# Altium integrated library Diodes - TVS.IntLib: 5379 symbols (part 16 of 122)
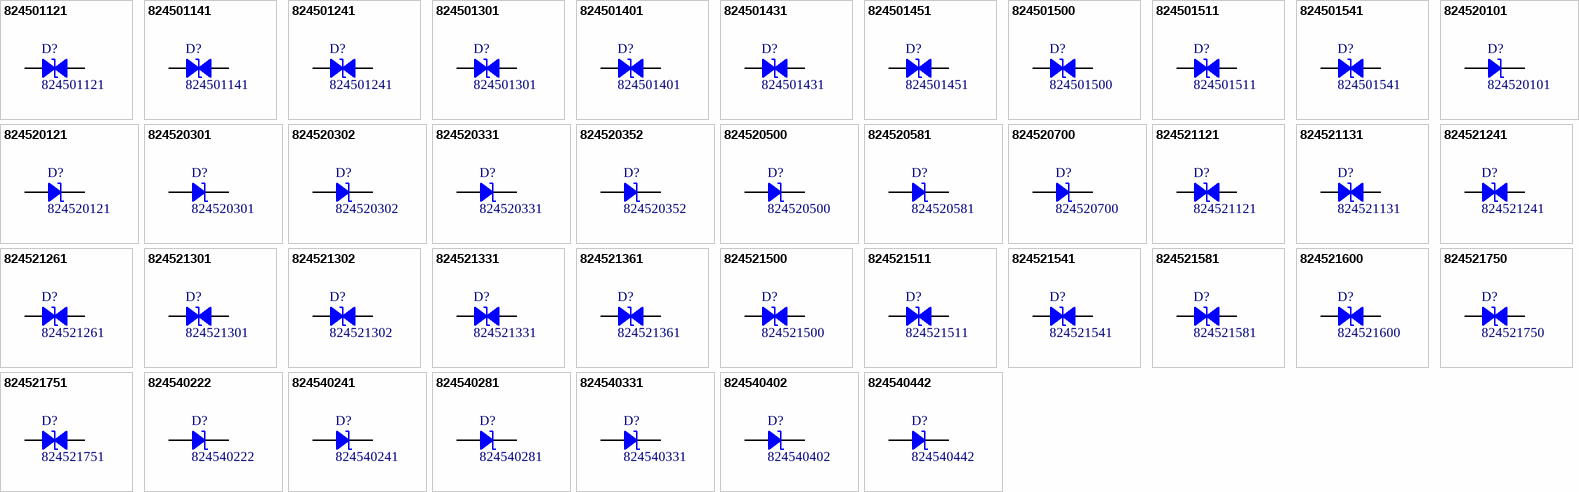
[diagram p149: symbols 824501121 to 824540442]

## 824520581
designator D?
TVS DIODE 58V 93.6V DO214AA; Manufacturer: Würth Elektronik; Current - Peak Pulse (10/1000µs): 6.5A; Power Line Protection: No; Power - Peak Pulse: 600W; Type: Zener; Unidirectional Channels: 1; Voltage - Breakdown (Min): 67.8V (Typ); Voltage - Reverse Standoff (Typ): 58V (Max); Part Number: 824520581; Applications: General Purpose; ComponentLink1Description: Datasheet; ComponentLink1URL: https://katalog.we-online.de/pbs/datasheet/824520581.pdf; ComponentLink2Description: DigiKey Link; ComponentLink2URL: http://digikey.com/product-detail/en/w-rth-elektronik/824520581/732-9790-1-ND/5870944; LastUpdated: 9/2/2020 1:19:49 AM; Lifecycle Status: Active; Minimum Order: 1; Mounting Type: Surface Mount; Operating Temperature: -65°C ~ 150°C (TJ); Package / Case: DO-214AA, SMB; Packaging: TapeAndReel; PartId: 11150; Part Status: Active; Price: 0.24; Series: WE-TVSP; Supplier 1: DigiKey; Supplier Part Number 1: 732-9790-1-ND; Supplier Device Package: DO-214AA; Voltage - Clamping (Max) @ Ipp: 93.6V
footprint DO214AA SMB
pins: 1, 2

## 824520700
designator D?
TVS DIODE 7V 12V DO214AA; Manufacturer: Würth Elektronik; Current - Peak Pulse (10/1000µs): 50A; Power Line Protection: No; Power - Peak Pulse: 600W; Type: Zener; Unidirectional Channels: 1; Voltage - Breakdown (Min): 8.19V (Typ); Voltage - Reverse Standoff (Typ): 7V (Max); Part Number: 824520700; Applications: General Purpose; ComponentLink1Description: Datasheet; ComponentLink1URL: https://katalog.we-online.de/pbs/datasheet/824520700.pdf; ComponentLink2Description: DigiKey Link; ComponentLink2URL: http://digikey.com/product-detail/en/w-rth-elektronik/824520700/732-9767-1-ND/5870921; LastUpdated: 9/2/2020 1:19:49 AM; Lifecycle Status: Active; Minimum Order: 1; Mounting Type: Surface Mount; Operating Temperature: -65°C ~ 150°C (TJ); Package / Case: DO-214AA, SMB; Packaging: TapeAndReel; PartId: 11158; Part Status: Active; Price: 0.24; Series: WE-TVSP; Supplier 1: DigiKey; Supplier Part Number 1: 732-9767-1-ND; Supplier Device Package: DO-214AA; Voltage - Clamping (Max) @ Ipp: 12V
footprint DO214AA SMB
pins: 1, 2

## 824521121
designator D?
TVS DIODE 12V 19.9V DO214AA; Manufacturer: Würth Elektronik; Bidirectional Channels: 1; Current - Peak Pulse (10/1000µs): 30.2A; Power Line Protection: No; Power - Peak Pulse: 600W; Type: Zener; Voltage - Breakdown (Min): 14V (Typ); Voltage - Reverse Standoff (Typ): 12V (Max); Part Number: 824521121; Applications: General Purpose; ComponentLink1Description: Datasheet; ComponentLink1URL: https://katalog.we-online.de/pbs/datasheet/824521121.pdf; ComponentLink2Description: DigiKey Link; ComponentLink2URL: http://digikey.com/product-detail/en/w-rth-elektronik/824521121/732-9739-1-ND/5870893; LastUpdated: 9/2/2020 1:28:20 AM; Lifecycle Status: Active; Minimum Order: 1; Mounting Type: Surface Mount; Operating Temperature: -65°C ~ 150°C (TJ); Package / Case: DO-214AA, SMB; Packaging: TapeAndReel; PartId: 9449; Part Status: Active; Price: 0.24; Series: WE-TVSP; Supplier 1: DigiKey; Supplier Part Number 1: 732-9739-1-ND; Supplier Device Package: DO-214AA; Voltage - Clamping (Max) @ Ipp: 19.9V
footprint DO214AA SMB
pins: 1, 2

## 824521131
designator D?
TVS DIODE 13V 21.5V DO214AA; Manufacturer: Würth Elektronik; Bidirectional Channels: 1; Current - Peak Pulse (10/1000µs): 28A; Power Line Protection: No; Power - Peak Pulse: 600W; Type: Zener; Voltage - Breakdown (Min): 15.15V (Typ); Voltage - Reverse Standoff (Typ): 13V (Max); Part Number: 824521131; Applications: General Purpose; ComponentLink1Description: Datasheet; ComponentLink1URL: https://katalog.we-online.de/pbs/datasheet/824521131.pdf; ComponentLink2Description: DigiKey Link; ComponentLink2URL: http://digikey.com/product-detail/en/w-rth-elektronik/824521131/732-9740-1-ND/5870894; LastUpdated: 9/2/2020 1:28:20 AM; Lifecycle Status: Active; Minimum Order: 1; Mounting Type: Surface Mount; Operating Temperature: -65°C ~ 150°C (TJ); Package / Case: DO-214AA, SMB; Packaging: TapeAndReel; PartId: 9447; Part Status: Active; Price: 0.24; Series: WE-TVSP; Supplier 1: DigiKey; Supplier Part Number 1: 732-9740-1-ND; Supplier Device Package: DO-214AA; Voltage - Clamping (Max) @ Ipp: 21.5V
footprint DO214AA SMB
pins: 1, 2

## 824521241
designator D?
TVS DIODE 24V 38.9V DO214AA; Manufacturer: Würth Elektronik; Bidirectional Channels: 1; Current - Peak Pulse (10/1000µs): 15.5A; Power Line Protection: No; Power - Peak Pulse: 600W; Type: Zener; Voltage - Breakdown (Min): 28.1V (Typ); Voltage - Reverse Standoff (Typ): 24V (Max); Part Number: 824521241; Applications: General Purpose; ComponentLink1Description: Datasheet; ComponentLink1URL: https://katalog.we-online.de/pbs/datasheet/824521241.pdf; ComponentLink2Description: DigiKey Link; ComponentLink2URL: http://digikey.com/product-detail/en/w-rth-elektronik/824521241/732-9746-1-ND/5870900; LastUpdated: 9/2/2020 1:28:20 AM; Lifecycle Status: Active; Minimum Order: 1; Mounting Type: Surface Mount; Operating Temperature: -65°C ~ 150°C (TJ); Package / Case: DO-214AA, SMB; Packaging: TapeAndReel; PartId: 9451; Part Status: Active; Price: 0.24; Series: WE-TVSP; Supplier 1: DigiKey; Supplier Part Number 1: 732-9746-1-ND; Supplier Device Package: DO-214AA; Voltage - Clamping (Max) @ Ipp: 38.9V
footprint DO214AA SMB
pins: 1, 2

## 824521261
designator D?
TVS DIODE 26V 42.1V DO214AA; Manufacturer: Würth Elektronik; Bidirectional Channels: 1; Current - Peak Pulse (10/1000µs): 14.3A; Power Line Protection: No; Power - Peak Pulse: 600W; Type: Zener; Voltage - Breakdown (Min): 30.4V (Typ); Voltage - Reverse Standoff (Typ): 26V (Max); Part Number: 824521261; Applications: General Purpose; ComponentLink1Description: Datasheet; ComponentLink1URL: https://katalog.we-online.de/pbs/datasheet/824521261.pdf; ComponentLink2Description: DigiKey Link; ComponentLink2URL: http://digikey.com/product-detail/en/w-rth-elektronik/824521261/732-9742-1-ND/5870896; LastUpdated: 9/2/2020 1:28:20 AM; Lifecycle Status: Active; Minimum Order: 1; Mounting Type: Surface Mount; Operating Temperature: -65°C ~ 150°C (TJ); Package / Case: DO-214AA, SMB; Packaging: TapeAndReel; PartId: 9450; Part Status: Active; Price: 0.24; Series: WE-TVSP; Supplier 1: DigiKey; Supplier Part Number 1: 732-9742-1-ND; Supplier Device Package: DO-214AA; Voltage - Clamping (Max) @ Ipp: 42.1V
footprint DO214AA SMB
pins: 1, 2

## 824521301
designator D?
TVS DIODE 30V 48.4V DO214AA; Manufacturer: Würth Elektronik; Bidirectional Channels: 1; Current - Peak Pulse (10/1000µs): 12.4A; Power Line Protection: No; Power - Peak Pulse: 600W; Type: Zener; Voltage - Breakdown (Min): 35.05V (Typ); Voltage - Reverse Standoff (Typ): 30V (Max); Part Number: 824521301; Applications: General Purpose; ComponentLink1Description: Datasheet; ComponentLink1URL: https://katalog.we-online.de/pbs/datasheet/824521301.pdf; ComponentLink2Description: DigiKey Link; ComponentLink2URL: http://digikey.com/product-detail/en/w-rth-elektronik/824521301/732-9747-1-ND/5870901; LastUpdated: 9/2/2020 1:28:16 AM; Lifecycle Status: Active; Minimum Order: 1; Mounting Type: Surface Mount; Operating Temperature: -65°C ~ 150°C (TJ); Package / Case: DO-214AA, SMB; Packaging: TapeAndReel; PartId: 8966; Part Status: Active; Price: 0.24; Series: WE-TVSP; Supplier 1: DigiKey; Supplier Part Number 1: 732-9747-1-ND; Supplier Device Package: DO-214AA; Voltage - Clamping (Max) @ Ipp: 48.4V
footprint DO214AA SMB
pins: 1, 2

## 824521302
designator D?
WE-TVSP POWER TVS DIODE; Manufacturer: Würth Elektronik; Bidirectional Channels: 1; Current - Peak Pulse (10/1000µs): 1.3A; Power Line Protection: No; Type: Zener; Voltage - Breakdown (Min): 353V; Voltage - Clamping (Max) @ Ipp: 486V; Voltage - Reverse Standoff (Typ): 300V (Max); Part Number: 824521302; Applications: General Purpose; ComponentLink2Description: DigiKey Link; ComponentLink2URL: http://digikey.com/product-detail/en/würth-elektronik/824521302/732-824521302CT-ND/12728091; LastUpdated: 8/30/2020 9:07:43 PM; Lifecycle Status: Active; Minimum Order: 1; Mounting Type: Surface Mount; Operating Temperature: -65°C ~ 150°C (TA); Package / Case: DO-214AA, SMB; Packaging: TapeAndReel; PartId: 11485; Price: 0.46; Series: WE-TVSP; Supplier 1: DigiKey; Supplier Part Number 1: 732-824521302CT-ND; Supplier Device Package: DO-214AA
footprint DO214AA SMB
pins: 1, 2

## 824521331
designator D?
TVS DIODE 33V 53.3V DO214AA; Manufacturer: Würth Elektronik; Bidirectional Channels: 1; Current - Peak Pulse (10/1000µs): 11.3A; Power Line Protection: No; Power - Peak Pulse: 600W; Type: Zener; Voltage - Breakdown (Min): 38.65V (Typ); Voltage - Reverse Standoff (Typ): 33V (Max); Part Number: 824521331; Applications: General Purpose; ComponentLink1Description: Datasheet; ComponentLink1URL: https://katalog.we-online.de/pbs/datasheet/824521331.pdf; ComponentLink2Description: DigiKey Link; ComponentLink2URL: http://digikey.com/product-detail/en/w-rth-elektronik/824521331/732-9748-1-ND/5870902; LastUpdated: 9/2/2020 1:28:20 AM; Lifecycle Status: Active; Minimum Order: 0; Mounting Type: Surface Mount; Operating Temperature: -65°C ~ 150°C (TJ); Package / Case: DO-214AA, SMB; Packaging: TapeAndReel; PartId: 9457; Part Status: Active; Price: 0.24; Series: WE-TVSP; Supplier 1: DigiKey; Supplier Part Number 1: 732-9748-1-ND; Supplier Device Package: DO-214AA; Voltage - Clamping (Max) @ Ipp: 53.3V
footprint DO214AA SMB
pins: 1, 2

## 824521361
designator D?
TVS DIODE 36V 58.1V DO214AA; Manufacturer: Würth Elektronik; Bidirectional Channels: 1; Current - Peak Pulse (10/1000µs): 10.4A; Power Line Protection: No; Power - Peak Pulse: 600W; Type: Zener; Voltage - Breakdown (Min): 42.1V (Typ); Voltage - Reverse Standoff (Typ): 36V (Max); Part Number: 824521361; Applications: General Purpose; ComponentLink1Description: Datasheet; ComponentLink1URL: https://katalog.we-online.de/pbs/datasheet/824521361.pdf; ComponentLink2Description: DigiKey Link; ComponentLink2URL: http://digikey.com/product-detail/en/w-rth-elektronik/824521361/732-9749-1-ND/5870903; LastUpdated: 9/2/2020 1:28:20 AM; Lifecycle Status: Active; Minimum Order: 0; Mounting Type: Surface Mount; Operating Temperature: -65°C ~ 150°C (TJ); Package / Case: DO-214AA, SMB; Packaging: TapeAndReel; PartId: 9454; Part Status: Active; Price: 0.24; Series: WE-TVSP; Supplier 1: DigiKey; Supplier Part Number 1: 732-9749-1-ND; Supplier Device Package: DO-214AA; Voltage - Clamping (Max) @ Ipp: 58.1V
footprint DO214AA SMB
pins: 1, 2

## 824521500
designator D?
TVS DIODE 5V 9.2V DO214AA; Manufacturer: Würth Elektronik; Bidirectional Channels: 1; Current - Peak Pulse (10/1000µs): 65.3A; Power Line Protection: No; Power - Peak Pulse: 600W; Type: Zener; Voltage - Breakdown (Min): 6.7V (Typ); Voltage - Reverse Standoff (Typ): 5V (Max); Part Number: 824521500; Applications: General Purpose; ComponentLink1Description: Datasheet; ComponentLink1URL: https://katalog.we-online.de/pbs/datasheet/824521500.pdf; ComponentLink2Description: DigiKey Link; ComponentLink2URL: http://digikey.com/product-detail/en/w-rth-elektronik/824521500/732-9729-1-ND/5870883; LastUpdated: 9/2/2020 1:28:20 AM; Lifecycle Status: Active; Minimum Order: 1; Mounting Type: Surface Mount; Operating Temperature: -65°C ~ 150°C (TJ); Package / Case: DO-214AA, SMB; Packaging: TapeAndReel; PartId: 9462; Part Status: Active; Price: 0.24; Series: WE-TVSP; Supplier 1: DigiKey; Supplier Part Number 1: 732-9729-1-ND; Supplier Device Package: DO-214AA; Voltage - Clamping (Max) @ Ipp: 9.2V
footprint DO214AA SMB
pins: 1, 2

## 824521511
designator D?
TVS DIODE 51V 82.4V DO214AA; Manufacturer: Würth Elektronik; Bidirectional Channels: 1; Current - Peak Pulse (10/1000µs): 7.3A; Power Line Protection: No; Power - Peak Pulse: 600W; Type: Zener; Voltage - Breakdown (Min): 59.7V (Typ); Voltage - Reverse Standoff (Typ): 51V (Max); Part Number: 824521511; Applications: General Purpose; ComponentLink1Description: Datasheet; ComponentLink1URL: https://katalog.we-online.de/pbs/datasheet/824521511.pdf; ComponentLink2Description: DigiKey Link; ComponentLink2URL: http://digikey.com/product-detail/en/w-rth-elektronik/824521511/732-9754-1-ND/5870908; LastUpdated: 9/2/2020 1:28:20 AM; Lifecycle Status: Active; Minimum Order: 1; Mounting Type: Surface Mount; Operating Temperature: -65°C ~ 150°C (TJ); Package / Case: DO-214AA, SMB; Packaging: TapeAndReel; PartId: 9448; Part Status: Active; Price: 0.24; Series: WE-TVSP; Supplier 1: DigiKey; Supplier Part Number 1: 732-9754-1-ND; Supplier Device Package: DO-214AA; Voltage - Clamping (Max) @ Ipp: 82.4V
footprint DO214AA SMB
pins: 1, 2

## 824521541
designator D?
TVS DIODE 54V 87.1V DO214AA; Manufacturer: Würth Elektronik; Bidirectional Channels: 1; Current - Peak Pulse (10/1000µs): 6.9A; Power Line Protection: No; Power - Peak Pulse: 600W; Type: Zener; Voltage - Breakdown (Min): 63.15V (Typ); Voltage - Reverse Standoff (Typ): 54V (Max); Part Number: 824521541; Applications: General Purpose; ComponentLink1Description: Datasheet; ComponentLink1URL: https://katalog.we-online.de/pbs/datasheet/824521541.pdf; ComponentLink2Description: DigiKey Link; ComponentLink2URL: http://digikey.com/product-detail/en/w-rth-elektronik/824521541/732-9755-1-ND/5870909; LastUpdated: 9/2/2020 1:28:15 AM; Lifecycle Status: Active; Minimum Order: 0; Mounting Type: Surface Mount; Operating Temperature: -65°C ~ 150°C (TJ); Package / Case: DO-214AA, SMB; Packaging: TapeAndReel; PartId: 8816; Part Status: Active; Price: 0.24; Series: WE-TVSP; Supplier 1: DigiKey; Supplier Part Number 1: 732-9755-1-ND; Supplier Device Package: DO-214AA; Voltage - Clamping (Max) @ Ipp: 87.1V
footprint DO214AA SMB
pins: 1, 2

## 824521581
designator D?
TVS DIODE 58V 93.6V DO214AA; Manufacturer: Würth Elektronik; Bidirectional Channels: 1; Current - Peak Pulse (10/1000µs): 6.5A; Power Line Protection: No; Power - Peak Pulse: 600W; Type: Zener; Voltage - Breakdown (Min): 67.8V (Typ); Voltage - Reverse Standoff (Typ): 58V (Max); Part Number: 824521581; Applications: General Purpose; ComponentLink1Description: Datasheet; ComponentLink1URL: https://katalog.we-online.de/pbs/datasheet/824521581.pdf; ComponentLink2Description: DigiKey Link; ComponentLink2URL: http://digikey.com/product-detail/en/w-rth-elektronik/824521581/732-9753-1-ND/5870907; LastUpdated: 9/2/2020 1:28:20 AM; Lifecycle Status: Active; Minimum Order: 0; Mounting Type: Surface Mount; Operating Temperature: -65°C ~ 150°C (TJ); Package / Case: DO-214AA, SMB; Packaging: TapeAndReel; PartId: 9452; Part Status: Active; Price: 0.24; Series: WE-TVSP; Supplier 1: DigiKey; Supplier Part Number 1: 732-9753-1-ND; Supplier Device Package: DO-214AA; Voltage - Clamping (Max) @ Ipp: 93.6V
footprint DO214AA SMB
pins: 1, 2

## 824521600
designator D?
TVS DIODE 6V 10.3V DO214AA; Manufacturer: Würth Elektronik; Bidirectional Channels: 1; Current - Peak Pulse (10/1000µs): 58.3A; Power Line Protection: No; Power - Peak Pulse: 600W; Type: Zener; Voltage - Breakdown (Min): 7.02V (Typ); Voltage - Reverse Standoff (Typ): 6V (Max); Part Number: 824521600; Applications: General Purpose; ComponentLink1Description: Datasheet; ComponentLink1URL: https://katalog.we-online.de/pbs/datasheet/824521600.pdf; ComponentLink2Description: DigiKey Link; ComponentLink2URL: http://digikey.com/product-detail/en/w-rth-elektronik/824521600/732-9730-1-ND/5870884; LastUpdated: 9/2/2020 1:28:20 AM; Lifecycle Status: Active; Minimum Order: 0; Mounting Type: Surface Mount; Operating Temperature: -65°C ~ 150°C (TJ); Package / Case: DO-214AA, SMB; Packaging: TapeAndReel; PartId: 9461; Part Status: Active; Price: 0.24; Series: WE-TVSP; Supplier 1: DigiKey; Supplier Part Number 1: 732-9730-1-ND; Supplier Device Package: DO-214AA; Voltage - Clamping (Max) @ Ipp: 10.3V
footprint DO214AA SMB
pins: 1, 2

## 824521750
designator D?
TVS DIODE 7.5V 12.9V DO214AA; Manufacturer: Würth Elektronik; Bidirectional Channels: 1; Current - Peak Pulse (10/1000µs): 46.6A; Power Line Protection: No; Power - Peak Pulse: 600W; Type: Zener; Voltage - Breakdown (Min): 8.77V (Typ); Voltage - Reverse Standoff (Typ): 7.5V (Max); Part Number: 824521750; Applications: General Purpose; ComponentLink1Description: Datasheet; ComponentLink1URL: https://katalog.we-online.de/pbs/datasheet/824521750.pdf; ComponentLink2Description: DigiKey Link; ComponentLink2URL: http://digikey.com/product-detail/en/w-rth-elektronik/824521750/732-9733-1-ND/5870887; LastUpdated: 9/2/2020 1:28:20 AM; Lifecycle Status: Active; Minimum Order: 1; Mounting Type: Surface Mount; Operating Temperature: -65°C ~ 150°C (TJ); Package / Case: DO-214AA, SMB; Packaging: TapeAndReel; PartId: 9460; Part Status: Active; Price: 0.24; Series: WE-TVSP; Supplier 1: DigiKey; Supplier Part Number 1: 732-9733-1-ND; Supplier Device Package: DO-214AA; Voltage - Clamping (Max) @ Ipp: 12.9V
footprint DO214AA SMB
pins: 1, 2

## 824521751
designator D?
TVS DIODE 75V 121V DO214AA; Manufacturer: Würth Elektronik; Bidirectional Channels: 1; Current - Peak Pulse (10/1000µs): 5A; Power Line Protection: No; Power - Peak Pulse: 600W; Type: Zener; Voltage - Breakdown (Min): 87.7V (Typ); Voltage - Reverse Standoff (Typ): 75V (Max); Part Number: 824521751; Applications: General Purpose; ComponentLink1Description: Datasheet; ComponentLink1URL: https://katalog.we-online.de/pbs/datasheet/824521751.pdf; ComponentLink2Description: DigiKey Link; ComponentLink2URL: http://digikey.com/product-detail/en/w-rth-elektronik/824521751/732-9759-1-ND/5870913; LastUpdated: 9/2/2020 1:28:20 AM; Lifecycle Status: Active; Minimum Order: 0; Mounting Type: Surface Mount; Operating Temperature: -65°C ~ 150°C (TJ); Package / Case: DO-214AA, SMB; Packaging: TapeAndReel; PartId: 9453; Part Status: Active; Price: 0.24; Series: WE-TVSP; Supplier 1: DigiKey; Supplier Part Number 1: 732-9759-1-ND; Supplier Device Package: DO-214AA; Voltage - Clamping (Max) @ Ipp: 121V
footprint DO214AA SMB
pins: 1, 2

## 824540222
designator D?
WE-TVSP POWER TVS DIODE; Manufacturer: Würth Elektronik; Current - Peak Pulse (10/1000µs): 200A; Power Line Protection: No; Type: Zener; Unidirectional Channels: 1; Voltage - Breakdown (Min): 259V; Voltage - Clamping (Max) @ Ipp: 356V; Voltage - Reverse Standoff (Typ): 220V (Max); Part Number: 824540222; Applications: General Purpose; ComponentLink2Description: DigiKey Link; ComponentLink2URL: http://digikey.com/product-detail/en/würth-elektronik/824540222/732-824540222CT-ND/12726950; LastUpdated: 8/30/2020 9:01:03 PM; Lifecycle Status: Active; Minimum Order: 1; Mounting Type: Surface Mount; Operating Temperature: -65°C ~ 150°C (TA); Package / Case: DO-214AB, SMC; Packaging: TapeAndReel; PartId: 11471; Price: 0.66; Series: WE-TVSP; Supplier 1: DigiKey; Supplier Part Number 1: 732-824540222CT-ND; Supplier Device Package: DO-214AB
footprint DO214AB SMC
pins: 1, 2

## 824540241
designator D?
TVS DIODE 24V 38.9V DO214AB; Manufacturer: Würth Elektronik; Current - Peak Pulse (10/1000µs): 38.6A; Power Line Protection: No; Power - Peak Pulse: 1500W (1.5kW); Type: Zener; Unidirectional Channels: 1; Voltage - Breakdown (Min): 28.1V (Typ); Voltage - Reverse Standoff (Typ): 24V (Max); Part Number: 824540241; Applications: General Purpose; ComponentLink1Description: Datasheet; ComponentLink1URL: https://katalog.we-online.de/pbs/datasheet/824540241.pdf; ComponentLink2Description: DigiKey Link; ComponentLink2URL: http://digikey.com/product-detail/en/w-rth-elektronik/824540241/732-9851-1-ND/5871005; LastUpdated: 9/2/2020 1:20:03 AM; Lifecycle Status: Active; Minimum Order: 1; Mounting Type: Surface Mount; Operating Temperature: -65°C ~ 150°C (TJ); Package / Case: DO-214AB, SMC; Packaging: TapeAndReel; PartId: 6668; Part Status: Active; Price: 0.60; Series: WE-TVSP; Supplier 1: DigiKey; Supplier Part Number 1: 732-9851-1-ND; Supplier Device Package: DO-214AB; Voltage - Clamping (Max) @ Ipp: 38.9V
footprint DO214AB SMC
pins: 1, 2

## 824540281
designator D?
TVS DIODE 28V 45.4V DO214AB; Manufacturer: Würth Elektronik; Current - Peak Pulse (10/1000µs): 33.1A; Power Line Protection: No; Power - Peak Pulse: 1500W (1.5kW); Type: Zener; Unidirectional Channels: 1; Voltage - Breakdown (Min): 32.75V (Typ); Voltage - Reverse Standoff (Typ): 28V (Max); Part Number: 824540281; Applications: General Purpose; ComponentLink1Description: Datasheet; ComponentLink1URL: https://katalog.we-online.de/pbs/datasheet/824540281.pdf; ComponentLink2Description: DigiKey Link; ComponentLink2URL: http://digikey.com/product-detail/en/w-rth-elektronik/824540281/732-9848-1-ND/5871002; LastUpdated: 9/2/2020 1:20:00 AM; Lifecycle Status: Active; Minimum Order: 1; Mounting Type: Surface Mount; Operating Temperature: -65°C ~ 150°C (TJ); Package / Case: DO-214AB, SMC; Packaging: TapeAndReel; PartId: 6434; Part Status: Active; Price: 0.60; Series: WE-TVSP; Supplier 1: DigiKey; Supplier Part Number 1: 732-9848-1-ND; Supplier Device Package: DO-214AB; Voltage - Clamping (Max) @ Ipp: 45.4V
footprint DO214AB SMC
pins: 1, 2

## 824540331
designator D?
TVS DIODE 33V 53.3V DO214AB; Manufacturer: Würth Elektronik; Current - Peak Pulse (10/1000µs): 28.2A; Power Line Protection: No; Power - Peak Pulse: 1500W (1.5kW); Type: Zener; Unidirectional Channels: 1; Voltage - Breakdown (Min): 38.65V (Typ); Voltage - Reverse Standoff (Typ): 33V (Max); Part Number: 824540331; Applications: General Purpose; ComponentLink1Description: Datasheet; ComponentLink1URL: https://katalog.we-online.de/pbs/datasheet/824540331.pdf; ComponentLink2Description: DigiKey Link; ComponentLink2URL: http://digikey.com/product-detail/en/w-rth-elektronik/824540331/732-9853-1-ND/5871007; LastUpdated: 9/2/2020 1:20:03 AM; Lifecycle Status: Active; Minimum Order: 0; Mounting Type: Surface Mount; Operating Temperature: -65°C ~ 150°C (TJ); Package / Case: DO-214AB, SMC; Packaging: TapeAndReel; PartId: 6669; Part Status: Active; Price: 0.60; Series: WE-TVSP; Supplier 1: DigiKey; Supplier Part Number 1: 732-9853-1-ND; Supplier Device Package: DO-214AB; Voltage - Clamping (Max) @ Ipp: 53.3V
footprint DO214AB SMC
pins: 1, 2

## 824540402
designator D?
WE-TVSP POWER TVS DIODE; Manufacturer: Würth Elektronik; Current - Peak Pulse (10/1000µs): 200A; Power Line Protection: No; Type: Zener; Unidirectional Channels: 1; Voltage - Breakdown (Min): 470.5V; Voltage - Clamping (Max) @ Ipp: 648V; Voltage - Reverse Standoff (Typ): 400V (Max); Part Number: 824540402; Applications: General Purpose; ComponentLink2Description: DigiKey Link; ComponentLink2URL: http://digikey.com/product-detail/en/würth-elektronik/824540402/732-824540402CT-ND/12727062; LastUpdated: 8/30/2020 9:01:03 PM; Lifecycle Status: Active; Minimum Order: 1; Mounting Type: Surface Mount; Package / Case: DO-214AB, SMC; Packaging: CutTape; PartId: 11472; Price: 1.67; Series: WE-TVSP; Supplier 1: DigiKey; Supplier Part Number 1: 732-824540402CT-ND; Supplier Device Package: DO-214AB
footprint DO214AB SMC
pins: 1, 2

## 824540442
designator D?
WE-TVSP POWER TVS DIODE; Manufacturer: Würth Elektronik; Current - Peak Pulse (10/1000µs): 200A; Power Line Protection: No; Type: Zener; Unidirectional Channels: 1; Voltage - Breakdown (Min): 517.5V; Voltage - Clamping (Max) @ Ipp: 713V; Voltage - Reverse Standoff (Typ): 440V (Max); Part Number: 824540442; Applications: General Purpose; ComponentLink2Description: DigiKey Link; ComponentLink2URL: http://digikey.com/product-detail/en/würth-elektronik/824540442/732-824540442CT-ND/12727109; LastUpdated: 8/30/2020 9:01:03 PM; Lifecycle Status: Active; Minimum Order: 1; Mounting Type: Surface Mount; Package / Case: DO-214AB, SMC; Packaging: CutTape; PartId: 11470; Price: 1.67; Series: WE-TVSP; Supplier 1: DigiKey; Supplier Part Number 1: 732-824540442CT-ND; Supplier Device Package: DO-214AB
footprint DO214AB SMC
pins: 1, 2

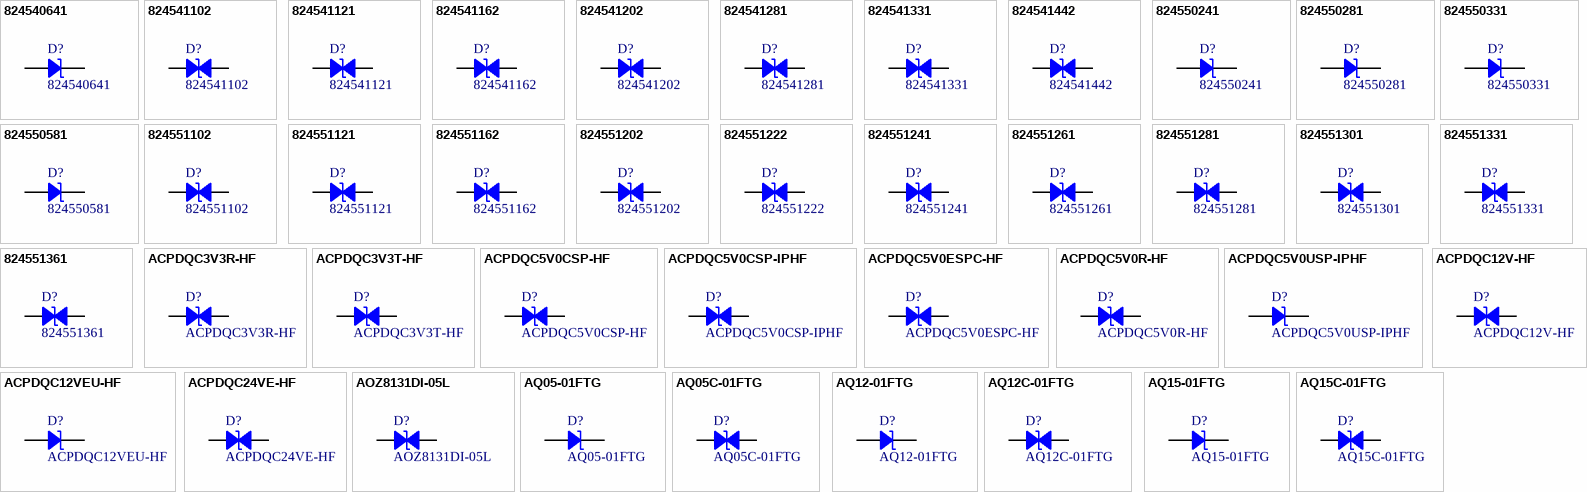
[diagram p17: symbols 824540641 to AQ15C-01FTG]

## 824540641
designator D?
TVS DIODE 64V 103V DO214AB; Manufacturer: Würth Elektronik; Current - Peak Pulse (10/1000µs): 14.6A; Power Line Protection: No; Power - Peak Pulse: 1500W (1.5kW); Type: Zener; Unidirectional Channels: 1; Voltage - Breakdown (Min): 74.85V (Typ); Voltage - Reverse Standoff (Typ): 64V (Max); Part Number: 824540641; Applications: General Purpose; ComponentLink1Description: Datasheet; ComponentLink1URL: https://katalog.we-online.de/pbs/datasheet/824540641.pdf; ComponentLink2Description: DigiKey Link; ComponentLink2URL: http://digikey.com/product-detail/en/w-rth-elektronik/824540641/732-9862-1-ND/5871016; LastUpdated: 9/2/2020 1:20:00 AM; Lifecycle Status: Active; Minimum Order: 0; Mounting Type: Surface Mount; Operating Temperature: -65°C ~ 150°C (TJ); Package / Case: DO-214AB, SMC; Packaging: TapeAndReel; PartId: 6433; Part Status: Active; Price: 0.60; Series: WE-TVSP; Supplier 1: DigiKey; Supplier Part Number 1: 732-9862-1-ND; Supplier Device Package: DO-214AB; Voltage - Clamping (Max) @ Ipp: 103V
footprint DO214AB SMC
pins: 1, 2

## 824541102
designator D?
TVS DIODE 100V 162V DO214AB; Manufacturer: Würth Elektronik; Bidirectional Channels: 1; Current - Peak Pulse (10/1000µs): 9.3A; Power Line Protection: No; Power - Peak Pulse: 1500W (1.5kW); Type: Zener; Voltage - Breakdown (Min): 117V (Typ); Voltage - Reverse Standoff (Typ): 100V (Max); Part Number: 824541102; Applications: General Purpose; ComponentLink1Description: Datasheet; ComponentLink1URL: https://katalog.we-online.de/pbs/datasheet/824541102.pdf; ComponentLink2Description: DigiKey Link; ComponentLink2URL: http://digikey.com/product-detail/en/w-rth-elektronik/824541102/732-9833-1-ND/5870987; LastUpdated: 9/2/2020 1:28:05 AM; Lifecycle Status: Active; Minimum Order: 1; Mounting Type: Surface Mount; Operating Temperature: -65°C ~ 150°C (TJ); Package / Case: DO-214AB, SMC; Packaging: TapeAndReel; PartId: 8277; Part Status: Active; Price: 0.60; Series: WE-TVSP; Supplier 1: DigiKey; Supplier Part Number 1: 732-9833-1-ND; Supplier Device Package: DO-214AB; Voltage - Clamping (Max) @ Ipp: 162V
footprint DO214AB SMC
pins: 1, 2

## 824541121
designator D?
TVS DIODE 12V 19.9V DO214AB; Manufacturer: Würth Elektronik; Bidirectional Channels: 1; Current - Peak Pulse (10/1000µs): 75.4A; Power Line Protection: No; Power - Peak Pulse: 1500W (1.5kW); Type: Zener; Voltage - Breakdown (Min): 14V (Typ); Voltage - Reverse Standoff (Typ): 12V (Max); Part Number: 824541121; Applications: General Purpose; ComponentLink1Description: Datasheet; ComponentLink1URL: https://katalog.we-online.de/pbs/datasheet/824541121.pdf; ComponentLink2Description: DigiKey Link; ComponentLink2URL: http://digikey.com/product-detail/en/w-rth-elektronik/824541121/732-9809-1-ND/5870963; LastUpdated: 9/2/2020 1:28:06 AM; Lifecycle Status: Active; Minimum Order: 0; Mounting Type: Surface Mount; Operating Temperature: -65°C ~ 150°C (TJ); Package / Case: DO-214AB, SMC; Packaging: TapeAndReel; PartId: 8489; Part Status: Active; Price: 0.60; Series: WE-TVSP; Supplier 1: DigiKey; Supplier Part Number 1: 732-9809-1-ND; Supplier Device Package: DO-214AB; Voltage - Clamping (Max) @ Ipp: 19.9V
footprint DO214AB SMC
pins: 1, 2

## 824541162
designator D?
WE-TVSP POWER TVS DIODE; Manufacturer: Würth Elektronik; Bidirectional Channels: 1; Current - Peak Pulse (10/1000µs): 5.8A; Power Line Protection: No; Type: Zener; Voltage - Breakdown (Min): 187.5V; Voltage - Clamping (Max) @ Ipp: 259V; Voltage - Reverse Standoff (Typ): 160V (Max); Part Number: 824541162; Applications: General Purpose; ComponentLink2Description: DigiKey Link; ComponentLink2URL: http://digikey.com/product-detail/en/würth-elektronik/824541162/732-824541162CT-ND/12727066; LastUpdated: 8/30/2020 9:07:32 PM; Lifecycle Status: Active; Minimum Order: 1; Mounting Type: Surface Mount; Operating Temperature: -65°C ~ 150°C (TA); Package / Case: DO-214AB, SMC; Packaging: TapeAndReel; PartId: 11478; Price: 0.66; Series: WE-TVSP; Supplier 1: DigiKey; Supplier Part Number 1: 732-824541162CT-ND; Supplier Device Package: DO-214AB
footprint DO214AB SMC
pins: 1, 2

## 824541202
designator D?
WE-TVSP POWER TVS DIODE; Manufacturer: Würth Elektronik; Bidirectional Channels: 1; Current - Peak Pulse (10/1000µs): 4.6A; Power Line Protection: No; Type: Zener; Voltage - Breakdown (Min): 235.5V; Voltage - Clamping (Max) @ Ipp: 324V; Voltage - Reverse Standoff (Typ): 200V (Max); Part Number: 824541202; Applications: General Purpose; ComponentLink2Description: DigiKey Link; ComponentLink2URL: http://digikey.com/product-detail/en/würth-elektronik/824541202/732-824541202CT-ND/12727779; LastUpdated: 8/30/2020 9:07:32 PM; Lifecycle Status: Active; Minimum Order: 1; Mounting Type: Surface Mount; Operating Temperature: -65°C ~ 150°C (TA); Package / Case: DO-214AB, SMC; Packaging: TapeAndReel; PartId: 11477; Price: 0.73; Series: WE-TVSP; Supplier 1: DigiKey; Supplier Part Number 1: 732-824541202CT-ND; Supplier Device Package: DO-214AB
footprint DO214AB SMC
pins: 1, 2

## 824541281
designator D?
TVS DIODE 28V 45.4V DO214AB; Manufacturer: Würth Elektronik; Bidirectional Channels: 1; Current - Peak Pulse (10/1000µs): 33.1A; Power Line Protection: No; Power - Peak Pulse: 1500W (1.5kW); Type: Zener; Voltage - Breakdown (Min): 32.75V (Typ); Voltage - Reverse Standoff (Typ): 28V (Max); Part Number: 824541281; Applications: General Purpose; ComponentLink1Description: Datasheet; ComponentLink1URL: https://katalog.we-online.de/pbs/datasheet/824541281.pdf; ComponentLink2Description: DigiKey Link; ComponentLink2URL: http://digikey.com/product-detail/en/w-rth-elektronik/824541281/732-9813-1-ND/5870967; LastUpdated: 9/2/2020 1:28:05 AM; Lifecycle Status: Active; Minimum Order: 1; Mounting Type: Surface Mount; Operating Temperature: -65°C ~ 150°C (TJ); Package / Case: DO-214AB, SMC; Packaging: TapeAndReel; PartId: 8276; Part Status: Active; Price: 0.60; Series: WE-TVSP; Supplier 1: DigiKey; Supplier Part Number 1: 732-9813-1-ND; Supplier Device Package: DO-214AB; Voltage - Clamping (Max) @ Ipp: 45.4V
footprint DO214AB SMC
pins: 1, 2

## 824541331
designator D?
TVS DIODE 33V 53.3V DO214AB; Manufacturer: Würth Elektronik; Bidirectional Channels: 1; Current - Peak Pulse (10/1000µs): 28.2A; Power Line Protection: No; Power - Peak Pulse: 1500W (1.5kW); Type: Zener; Voltage - Breakdown (Min): 38.65V (Typ); Voltage - Reverse Standoff (Typ): 33V (Max); Part Number: 824541331; Applications: General Purpose; ComponentLink1Description: Datasheet; ComponentLink1URL: https://katalog.we-online.de/pbs/datasheet/824541331.pdf; ComponentLink2Description: DigiKey Link; ComponentLink2URL: http://digikey.com/product-detail/en/w-rth-elektronik/824541331/732-9819-1-ND/5870973; LastUpdated: 9/2/2020 1:28:05 AM; Lifecycle Status: Active; Minimum Order: 0; Mounting Type: Surface Mount; Operating Temperature: -65°C ~ 150°C (TJ); Package / Case: DO-214AB, SMC; Packaging: TapeAndReel; PartId: 8278; Part Status: Active; Price: 0.60; Series: WE-TVSP; Supplier 1: DigiKey; Supplier Part Number 1: 732-9819-1-ND; Supplier Device Package: DO-214AB; Voltage - Clamping (Max) @ Ipp: 53.3V
footprint DO214AB SMC
pins: 1, 2

## 824541442
designator D?
WE-TVSP POWER TVS DIODE; Manufacturer: Würth Elektronik; Bidirectional Channels: 1; Current - Peak Pulse (10/1000µs): 2.1A; Power Line Protection: No; Type: Zener; Voltage - Breakdown (Min): 517.5V; Voltage - Clamping (Max) @ Ipp: 713V; Voltage - Reverse Standoff (Typ): 440V (Max); Part Number: 824541442; Applications: General Purpose; ComponentLink2Description: DigiKey Link; ComponentLink2URL: http://digikey.com/product-detail/en/würth-elektronik/824541442/732-824541442CT-ND/12727221; LastUpdated: 8/30/2020 9:07:32 PM; Lifecycle Status: Active; Minimum Order: 1; Mounting Type: Surface Mount; Package / Case: DO-214AB, SMC; Packaging: TapeAndReel; PartId: 11481; Price: 1.35; Series: WE-TVSP; Supplier 1: DigiKey; Supplier Part Number 1: 732-824541442CT-ND; Supplier Device Package: DO-214AB
footprint DO214AB SMC
pins: 1, 2

## 824550241
designator D?
TVS DIODE 24V 38.9V DO214AB; Manufacturer: Würth Elektronik; Current - Peak Pulse (10/1000µs): 77.1A; Power Line Protection: No; Power - Peak Pulse: 3000W (3kW); Type: Zener; Unidirectional Channels: 1; Voltage - Breakdown (Min): 28.1V (Typ); Voltage - Reverse Standoff (Typ): 24V (Max); Part Number: 824550241; Applications: General Purpose; ComponentLink1Description: Datasheet; ComponentLink1URL: https://katalog.we-online.de/pbs/datasheet/824550241.pdf; ComponentLink2Description: DigiKey Link; ComponentLink2URL: http://digikey.com/product-detail/en/w-rth-elektronik/824550241/732-9921-1-ND/5871075; LastUpdated: 9/2/2020 1:19:58 AM; Lifecycle Status: Active; Minimum Order: 1; Mounting Type: Surface Mount; Operating Temperature: -65°C ~ 150°C (TJ); Package / Case: DO-214AB, SMC; Packaging: TapeAndReel; PartId: 6238; Part Status: Active; Price: 1.17; Series: WE-TVSP; Supplier 1: DigiKey; Supplier Part Number 1: 732-9921-1-ND; Supplier Device Package: DO-214AB; Voltage - Clamping (Max) @ Ipp: 38.9V
footprint DO214AB SMC
pins: 1, 2

## 824550281
designator D?
TVS DIODE 28V 45.4V DO214AB; Manufacturer: Würth Elektronik; Current - Peak Pulse (10/1000µs): 66.1A; Power Line Protection: No; Power - Peak Pulse: 3000W (3kW); Type: Zener; Unidirectional Channels: 1; Voltage - Breakdown (Min): 32.75V (Typ); Voltage - Reverse Standoff (Typ): 28V (Max); Part Number: 824550281; Applications: General Purpose; ComponentLink1Description: Datasheet; ComponentLink1URL: https://katalog.we-online.de/pbs/datasheet/824550281.pdf; ComponentLink2Description: DigiKey Link; ComponentLink2URL: http://digikey.com/product-detail/en/w-rth-elektronik/824550281/732-9918-1-ND/5871072; LastUpdated: 9/2/2020 1:19:58 AM; Lifecycle Status: Active; Minimum Order: 1; Mounting Type: Surface Mount; Operating Temperature: -65°C ~ 150°C (TJ); Package / Case: DO-214AB, SMC; Packaging: TapeAndReel; PartId: 6237; Part Status: Active; Price: 1.17; Series: WE-TVSP; Supplier 1: DigiKey; Supplier Part Number 1: 732-9918-1-ND; Supplier Device Package: DO-214AB; Voltage - Clamping (Max) @ Ipp: 45.4V
footprint DO214AB SMC
pins: 1, 2

## 824550331
designator D?
TVS DIODE 33V 53.3V DO214AB; Manufacturer: Würth Elektronik; Current - Peak Pulse (10/1000µs): 56.3A; Power Line Protection: No; Power - Peak Pulse: 3000W (3kW); Type: Zener; Unidirectional Channels: 1; Voltage - Breakdown (Min): 38.65V (Typ); Voltage - Reverse Standoff (Typ): 33V (Max); Part Number: 824550331; Applications: General Purpose; ComponentLink1Description: Datasheet; ComponentLink1URL: https://katalog.we-online.de/pbs/datasheet/824550331.pdf; ComponentLink2Description: DigiKey Link; ComponentLink2URL: http://digikey.com/product-detail/en/w-rth-elektronik/824550331/732-9923-1-ND/5871077; LastUpdated: 9/2/2020 1:19:58 AM; Lifecycle Status: Active; Minimum Order: 1; Mounting Type: Surface Mount; Operating Temperature: -65°C ~ 150°C (TJ); Package / Case: DO-214AB, SMC; Packaging: TapeAndReel; PartId: 6236; Part Status: Active; Price: 1.17; Series: WE-TVSP; Supplier 1: DigiKey; Supplier Part Number 1: 732-9923-1-ND; Supplier Device Package: DO-214AB; Voltage - Clamping (Max) @ Ipp: 53.3V
footprint DO214AB SMC
pins: 1, 2

## 824550581
designator D?
TVS DIODE 58V 93.6V DO214AB; Manufacturer: Würth Elektronik; Current - Peak Pulse (10/1000µs): 32.1A; Power Line Protection: No; Power - Peak Pulse: 3000W (3kW); Type: Zener; Unidirectional Channels: 1; Voltage - Breakdown (Min): 67.8V (Typ); Voltage - Reverse Standoff (Typ): 58V (Max); Part Number: 824550581; Applications: General Purpose; ComponentLink1Description: Datasheet; ComponentLink1URL: https://katalog.we-online.de/pbs/datasheet/824550581.pdf; ComponentLink2Description: DigiKey Link; ComponentLink2URL: http://digikey.com/product-detail/en/w-rth-elektronik/824550581/732-9930-1-ND/5871084; LastUpdated: 9/2/2020 1:20:00 AM; Lifecycle Status: Active; Minimum Order: 1; Mounting Type: Surface Mount; Operating Temperature: -65°C ~ 150°C (TJ); Package / Case: DO-214AB, SMC; Packaging: TapeAndReel; PartId: 6429; Part Status: Active; Price: 1.17; Series: WE-TVSP; Supplier 1: DigiKey; Supplier Part Number 1: 732-9930-1-ND; Supplier Device Package: DO-214AB; Voltage - Clamping (Max) @ Ipp: 93.6V
footprint DO214AB SMC
pins: 1, 2

## 824551102
designator D?
TVS DIODE 100V 162V DO214AB; Manufacturer: Würth Elektronik; Bidirectional Channels: 1; Current - Peak Pulse (10/1000µs): 18.5A; Power Line Protection: No; Power - Peak Pulse: 3000W (3kW); Type: Zener; Voltage - Breakdown (Min): 117V (Typ); Voltage - Reverse Standoff (Typ): 100V (Max); Part Number: 824551102; Applications: General Purpose; ComponentLink1Description: Datasheet; ComponentLink1URL: https://katalog.we-online.de/pbs/datasheet/824551102.pdf; ComponentLink2Description: DigiKey Link; ComponentLink2URL: http://digikey.com/product-detail/en/w-rth-elektronik/824551102/732-9903-1-ND/5871057; LastUpdated: 9/2/2020 1:28:01 AM; Lifecycle Status: Active; Minimum Order: 1; Mounting Type: Surface Mount; Operating Temperature: -65°C ~ 150°C (TJ); Package / Case: DO-214AB, SMC; Packaging: TapeAndReel; PartId: 7898; Part Status: Active; Price: 1.17; Series: WE-TVSP; Supplier 1: DigiKey; Supplier Part Number 1: 732-9903-1-ND; Supplier Device Package: DO-214AB; Voltage - Clamping (Max) @ Ipp: 162V
footprint DO214AB SMC
pins: 1, 2

## 824551121
designator D?
TVS DIODE 12V 19.9V DO214AB; Manufacturer: Würth Elektronik; Bidirectional Channels: 1; Current - Peak Pulse (10/1000µs): 150.8A; Power Line Protection: No; Power - Peak Pulse: 3000W (3kW); Type: Zener; Voltage - Breakdown (Min): 14V (Typ); Voltage - Reverse Standoff (Typ): 12V (Max); Part Number: 824551121; Applications: General Purpose; ComponentLink1Description: Datasheet; ComponentLink1URL: https://katalog.we-online.de/pbs/datasheet/824551121.pdf; ComponentLink2Description: DigiKey Link; ComponentLink2URL: http://digikey.com/product-detail/en/w-rth-elektronik/824551121/732-9879-1-ND/5871033; LastUpdated: 9/2/2020 1:28:01 AM; Lifecycle Status: Active; Minimum Order: 1; Mounting Type: Surface Mount; Operating Temperature: -65°C ~ 150°C (TJ); Package / Case: DO-214AB, SMC; Packaging: TapeAndReel; PartId: 7896; Part Status: Active; Price: 1.17; Series: WE-TVSP; Supplier 1: DigiKey; Supplier Part Number 1: 732-9879-1-ND; Supplier Device Package: DO-214AB; Voltage - Clamping (Max) @ Ipp: 19.9V
footprint DO214AB SMC
pins: 1, 2

## 824551162
designator D?
WE-TVSP POWER TVS DIODE; Manufacturer: Würth Elektronik; Bidirectional Channels: 1; Current - Peak Pulse (10/1000µs): 11.6A; Power Line Protection: No; Type: Zener; Voltage - Breakdown (Min): 187.5V; Voltage - Clamping (Max) @ Ipp: 259V; Voltage - Reverse Standoff (Typ): 160V (Max); Part Number: 824551162; Applications: General Purpose; ComponentLink2Description: DigiKey Link; ComponentLink2URL: http://digikey.com/product-detail/en/würth-elektronik/824551162/732-824551162CT-ND/12726826; LastUpdated: 8/30/2020 9:07:32 PM; Lifecycle Status: Active; Minimum Order: 1; Mounting Type: Surface Mount; Package / Case: DO-214AB, SMC; Packaging: CutTape; PartId: 11476; Price: 1.70; Series: WE-TVSP; Supplier 1: DigiKey; Supplier Part Number 1: 732-824551162CT-ND; Supplier Device Package: DO-214AB
footprint DO214AB SMC
pins: 1, 2

## 824551202
designator D?
WE-TVSP POWER TVS DIODE; Manufacturer: Würth Elektronik; Bidirectional Channels: 1; Current - Peak Pulse (10/1000µs): 9.3A; Power Line Protection: No; Type: Zener; Voltage - Breakdown (Min): 235.5V; Voltage - Clamping (Max) @ Ipp: 324V; Voltage - Reverse Standoff (Typ): 200V (Max); Part Number: 824551202; Applications: General Purpose; ComponentLink2Description: DigiKey Link; ComponentLink2URL: http://digikey.com/product-detail/en/würth-elektronik/824551202/732-824551202CT-ND/12727780; LastUpdated: 8/30/2020 9:07:32 PM; Lifecycle Status: Active; Minimum Order: 1; Mounting Type: Surface Mount; Package / Case: DO-214AB, SMC; Packaging: TapeAndReel; PartId: 11480; Price: 1.36; Series: WE-TVSP; Supplier 1: DigiKey; Supplier Part Number 1: 732-824551202CT-ND; Supplier Device Package: DO-214AB
footprint DO214AB SMC
pins: 1, 2

## 824551222
designator D?
WE-TVSP POWER TVS DIODE; Manufacturer: Würth Elektronik; Bidirectional Channels: 1; Current - Peak Pulse (10/1000µs): 8.4A; Power Line Protection: No; Type: Zener; Voltage - Breakdown (Min): 259V; Voltage - Clamping (Max) @ Ipp: 356V; Voltage - Reverse Standoff (Typ): 220V (Max); Part Number: 824551222; Applications: General Purpose; ComponentLink2Description: DigiKey Link; ComponentLink2URL: http://digikey.com/product-detail/en/würth-elektronik/824551222/732-824551222CT-ND/12726876; LastUpdated: 8/30/2020 9:07:32 PM; Lifecycle Status: Active; Minimum Order: 1; Mounting Type: Surface Mount; Package / Case: DO-214AB, SMC; Packaging: TapeAndReel; PartId: 11479; Price: 1.39; Series: WE-TVSP; Supplier 1: DigiKey; Supplier Part Number 1: 732-824551222CT-ND; Supplier Device Package: DO-214AB
footprint DO214AB SMC
pins: 1, 2

## 824551241
designator D?
TVS DIODE 24V 38.9V DO214AB; Manufacturer: Würth Elektronik; Bidirectional Channels: 1; Current - Peak Pulse (10/1000µs): 77.1A; Power Line Protection: No; Power - Peak Pulse: 3000W (3kW); Type: Zener; Voltage - Breakdown (Min): 28.1V (Typ); Voltage - Reverse Standoff (Typ): 24V (Max); Part Number: 824551241; Applications: General Purpose; ComponentLink1Description: Datasheet; ComponentLink1URL: https://katalog.we-online.de/pbs/datasheet/824551241.pdf; ComponentLink2Description: DigiKey Link; ComponentLink2URL: http://digikey.com/product-detail/en/w-rth-elektronik/824551241/732-9886-1-ND/5871040; LastUpdated: 9/2/2020 1:28:01 AM; Lifecycle Status: Active; Minimum Order: 1; Mounting Type: Surface Mount; Operating Temperature: -65°C ~ 150°C (TJ); Package / Case: DO-214AB, SMC; Packaging: TapeAndReel; PartId: 7895; Part Status: Active; Price: 1.17; Series: WE-TVSP; Supplier 1: DigiKey; Supplier Part Number 1: 732-9886-1-ND; Supplier Device Package: DO-214AB; Voltage - Clamping (Max) @ Ipp: 38.9V
footprint DO214AB SMC
pins: 1, 2

## 824551261
designator D?
TVS DIODE 26V 42.1V DO214AB; Manufacturer: Würth Elektronik; Bidirectional Channels: 1; Current - Peak Pulse (10/1000µs): 71.3A; Power Line Protection: No; Power - Peak Pulse: 3000W (3kW); Type: Zener; Voltage - Breakdown (Min): 30.4V (Typ); Voltage - Reverse Standoff (Typ): 26V (Max); Part Number: 824551261; Applications: General Purpose; ComponentLink1Description: Datasheet; ComponentLink1URL: https://katalog.we-online.de/pbs/datasheet/824551261.pdf; ComponentLink2Description: DigiKey Link; ComponentLink2URL: http://digikey.com/product-detail/en/w-rth-elektronik/824551261/732-9882-1-ND/5871036; LastUpdated: 9/2/2020 1:28:06 AM; Lifecycle Status: Active; Minimum Order: 0; Mounting Type: Surface Mount; Operating Temperature: -65°C ~ 150°C (TJ); Package / Case: DO-214AB, SMC; Packaging: TapeAndReel; PartId: 8490; Part Status: Active; Price: 1.17; Series: WE-TVSP; Supplier 1: DigiKey; Supplier Part Number 1: 732-9882-1-ND; Supplier Device Package: DO-214AB; Voltage - Clamping (Max) @ Ipp: 42.1V
footprint DO214AB SMC
pins: 1, 2

## 824551281
designator D?
TVS DIODE 28V 45.4V DO214AB; Manufacturer: Würth Elektronik; Bidirectional Channels: 1; Current - Peak Pulse (10/1000µs): 66.1A; Power Line Protection: No; Power - Peak Pulse: 3000W (3kW); Type: Zener; Voltage - Breakdown (Min): 32.75V (Typ); Voltage - Reverse Standoff (Typ): 28V (Max); Part Number: 824551281; Applications: General Purpose; ComponentLink1Description: Datasheet; ComponentLink1URL: https://katalog.we-online.de/pbs/datasheet/824551281.pdf; ComponentLink2Description: DigiKey Link; ComponentLink2URL: http://digikey.com/product-detail/en/w-rth-elektronik/824551281/732-9883-1-ND/5871037; LastUpdated: 9/2/2020 1:28:01 AM; Lifecycle Status: Active; Minimum Order: 0; Mounting Type: Surface Mount; Operating Temperature: -65°C ~ 150°C (TJ); Package / Case: DO-214AB, SMC; Packaging: TapeAndReel; PartId: 7900; Part Status: Active; Price: 1.17; Series: WE-TVSP; Supplier 1: DigiKey; Supplier Part Number 1: 732-9883-1-ND; Supplier Device Package: DO-214AB; Voltage - Clamping (Max) @ Ipp: 45.4V
footprint DO214AB SMC
pins: 1, 2

## 824551301
designator D?
TVS DIODE 30V 48.4V DO214AB; Manufacturer: Würth Elektronik; Bidirectional Channels: 1; Current - Peak Pulse (10/1000µs): 62A; Power Line Protection: No; Power - Peak Pulse: 3000W (3kW); Type: Zener; Voltage - Breakdown (Min): 35.05V (Typ); Voltage - Reverse Standoff (Typ): 30V (Max); Part Number: 824551301; Applications: General Purpose; ComponentLink1Description: Datasheet; ComponentLink1URL: https://katalog.we-online.de/pbs/datasheet/824551301.pdf; ComponentLink2Description: DigiKey Link; ComponentLink2URL: http://digikey.com/product-detail/en/w-rth-elektronik/824551301/732-9888-1-ND/5871042; LastUpdated: 9/2/2020 1:28:01 AM; Lifecycle Status: Active; Minimum Order: 0; Mounting Type: Surface Mount; Operating Temperature: -65°C ~ 150°C (TJ); Package / Case: DO-214AB, SMC; Packaging: TapeAndReel; PartId: 7899; Part Status: Active; Price: 1.17; Series: WE-TVSP; Supplier 1: DigiKey; Supplier Part Number 1: 732-9888-1-ND; Supplier Device Package: DO-214AB; Voltage - Clamping (Max) @ Ipp: 48.4V
footprint DO214AB SMC
pins: 1, 2

## 824551331
designator D?
TVS DIODE 33V 53.3V DO214AB; Manufacturer: Würth Elektronik; Bidirectional Channels: 1; Current - Peak Pulse (10/1000µs): 56.3A; Power Line Protection: No; Power - Peak Pulse: 3000W (3kW); Type: Zener; Voltage - Breakdown (Min): 38.65V (Typ); Voltage - Reverse Standoff (Typ): 33V (Max); Part Number: 824551331; Applications: General Purpose; ComponentLink1Description: Datasheet; ComponentLink1URL: https://katalog.we-online.de/pbs/datasheet/824551331.pdf; ComponentLink2Description: DigiKey Link; ComponentLink2URL: http://digikey.com/product-detail/en/w-rth-elektronik/824551331/732-9889-1-ND/5871043; LastUpdated: 9/2/2020 1:28:01 AM; Lifecycle Status: Active; Minimum Order: 1; Mounting Type: Surface Mount; Operating Temperature: -65°C ~ 150°C (TJ); Package / Case: DO-214AB, SMC; Packaging: TapeAndReel; PartId: 7897; Part Status: Active; Price: 1.17; Series: WE-TVSP; Supplier 1: DigiKey; Supplier Part Number 1: 732-9889-1-ND; Supplier Device Package: DO-214AB; Voltage - Clamping (Max) @ Ipp: 53.3V
footprint DO214AB SMC
pins: 1, 2

## 824551361
designator D?
TVS DIODE 36V 58.1V DO214AB; Manufacturer: Würth Elektronik; Bidirectional Channels: 1; Current - Peak Pulse (10/1000µs): 51.6A; Power Line Protection: No; Power - Peak Pulse: 3000W (3kW); Type: Zener; Voltage - Breakdown (Min): 42.1V (Typ); Voltage - Reverse Standoff (Typ): 36V (Max); Part Number: 824551361; Applications: General Purpose; ComponentLink1Description: Datasheet; ComponentLink1URL: https://katalog.we-online.de/pbs/datasheet/824551361.pdf; ComponentLink2Description: DigiKey Link; ComponentLink2URL: http://digikey.com/product-detail/en/w-rth-elektronik/824551361/732-9887-1-ND/5871041; LastUpdated: 9/2/2020 1:28:06 AM; Lifecycle Status: Active; Minimum Order: 1; Mounting Type: Surface Mount; Operating Temperature: -65°C ~ 150°C (TJ); Package / Case: DO-214AB, SMC; Packaging: TapeAndReel; PartId: 8486; Part Status: Active; Price: 1.17; Series: WE-TVSP; Supplier 1: DigiKey; Supplier Part Number 1: 732-9887-1-ND; Supplier Device Package: DO-214AB; Voltage - Clamping (Max) @ Ipp: 58.1V
footprint DO214AB SMC
pins: 1, 2

## ACPDQC3V3R-HF
designator D?
ESD DIODE 3.3VWM 18VC 0402 SOD-9; Manufacturer: Comchip Technology; Bidirectional Channels: 1; Capacitance @ Frequency: 18pF @ 1MHz; Current - Peak Pulse (10/1000µs): 2A (8/20µs); Power Line Protection: No; Power - Peak Pulse: 36W; Type: Zener; Voltage - Breakdown (Min): 5V; Voltage - Clamping (Max) @ Ipp: 18V; Voltage - Reverse Standoff (Typ): 3.3V (Max); Part Number: ACPDQC3V3R-HF; Applications: Automotive; ComponentLink1Description: Datasheet; ComponentLink1URL: http://www.comchiptech.com/admin/files/product/12025_20190315100524.pdf; ComponentLink2Description: DigiKey Link; ComponentLink2URL: http://digikey.com/product-detail/en/comchip-technology/ACPDQC3V3R-HF/641-2045-1-ND/10106896; Device Package: 0402 (1006 Metric); LastUpdated: 9/2/2020 1:28:49 AM; Lifecycle Status: Active; Minimum Order: 1; Mounting Type: Surface Mount; Operating Temperature: -55°C ~ 150°C (TJ); Package / Case: 0402 (1006 Metric); Packaging: TapeAndReel; PartId: 10484; Part Status: Active; Price: 0.05; Series: Automotive, AEC-Q101; Supplier 1: DigiKey; Supplier Part Number 1: 641-2045-1-ND; Supplier Device Package: 0402C/SOD-923F
footprint 0402
pins: 1, 2

## ACPDQC3V3T-HF
designator D?
TVS DIODE 3.3V 9.8V 0402C; Manufacturer: Comchip Technology; Bidirectional Channels: 1; Capacitance @ Frequency: 20pF @ 1MHz; Current - Peak Pulse (10/1000µs): 16A (8/20µs); Power Line Protection: No; Type: Zener; Voltage - Breakdown (Min): 3.6V; Voltage - Reverse Standoff (Typ): 3.3V (Max); Part Number: ACPDQC3V3T-HF; Applications: Automotive; ComponentLink1Description: Datasheet; ComponentLink1URL: http://www.comchiptech.com/admin/files/product/ACPDQC3V3T-HF%20RevA660763.pdf; ComponentLink2Description: DigiKey Link; ComponentLink2URL: http://digikey.com/product-detail/en/comchip-technology/ACPDQC3V3T-HF/641-1635-1-ND/5013840; Device Package: 0402 (1005 Metric); LastUpdated: 9/2/2020 1:28:49 AM; Lifecycle Status: Active; Minimum Order: 1; Mounting Type: Surface Mount; Package / Case: 0402 (1005 Metric); Packaging: TapeAndReel; PartId: 10466; Part Status: Active; Price: 0.06; Series: Automotive, AEC-Q101; Supplier 1: DigiKey; Supplier Part Number 1: 641-1635-1-ND; Supplier Device Package: 0402C/SOD-923F; Voltage - Clamping (Max) @ Ipp: 9.8V
footprint 0402
pins: 1, 2